# EAGLE library part 74AHC126 (library audioint)
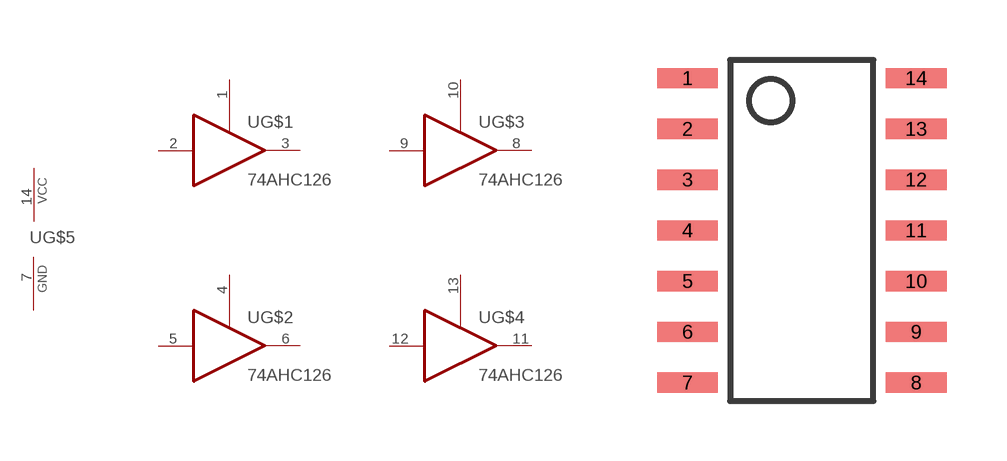
[diagram p11: symbol with the pads of 14-SOIC; footprint 14-SOIC]

Designator prefix -; gates G$1=74126 G$2=74126 G$3=74126 G$4=74126 G$5=PWR-GND

## 74AHC126  [14-SOIC]
1  G$1:OE  in
2  G$1:I  in
3  G$1:O  out
4  G$2:OE  in
5  G$2:I  in
6  G$2:O  out
7  G$5:GND  pwr
8  G$3:O  out
9  G$3:I  in
10  G$3:OE  in
11  G$4:O  out
12  G$4:I  in
13  G$4:OE  in
14  G$5:VCC  pwr

## Footprint 14-SOIC (pad centres in mm)
smd 1.524 x 0.508: 1 -2.857,3.81; 2 -2.857,2.54; 3 -2.857,1.27; 4 -2.857,0; 5 -2.857,-1.27; 6 -2.857,-2.54; 7 -2.857,-3.81; 8 2.857,-3.81; 9 2.857,-2.54; 10 2.857,-1.27; 11 2.857,0; 12 2.857,1.27; 13 2.857,2.54; 14 2.857,3.81